# EAGLE library part MAX31855KASA+ (library HyTechDevices)
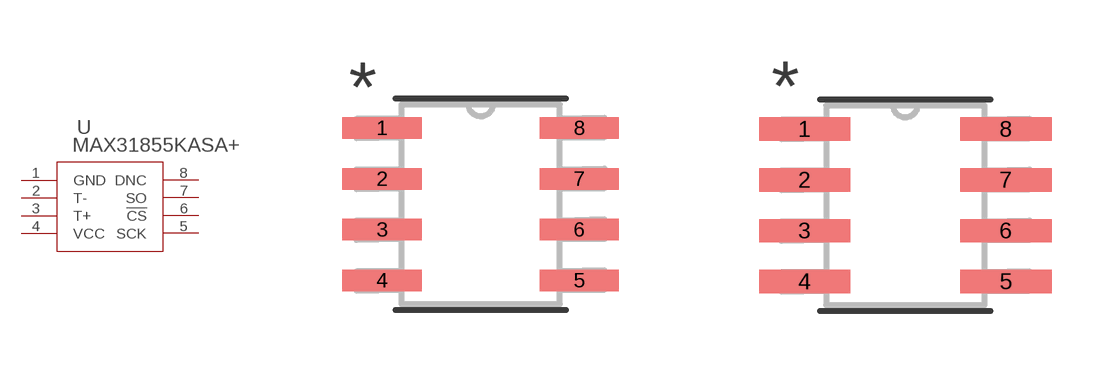
[diagram p111: symbol with the pads of 21-0041B_8; footprints 21-0041B_8, 21-0041B_8-M]

Designator prefix U

## MAX31855KASA+ (MANUFACTURER_PART_NUMBER: MAX31855KASA+; VENDOR: Maxim Integrated Products)  [21-0041B_8]
1  GND  pwr
2  T-  in
3  T+  in
4  VCC  pwr
5  SCK  in
6  !CS  pas
7  SO  out
8  DNC  nc

## MAX31855KASA+21-0041B_8-M (MANUFACTURER_PART_NUMBER: MAX31855KASA+; VENDOR: Maxim Integrated Products)  [21-0041B_8-M]
Pads as for 21-0041B_8

## MAX31855KASA+21-0041B_8-L (MANUFACTURER_PART_NUMBER: MAX31855KASA+; VENDOR: Maxim Integrated Products)  [21-0041B_8-L]
Pads as for 21-0041B_8

## Footprint 21-0041B_8 (pad centres in mm)
smd 1.981 x 0.533: 1 -2.464,1.905; 2 -2.464,0.635; 3 -2.464,-0.635; 4 -2.464,-1.905; 5 2.464,-1.905; 6 2.464,-0.635; 7 2.464,0.635; 8 2.464,1.905

## Footprint 21-0041B_8-M (pad centres in mm)
smd 2.286 x 0.584: 1 -2.515,1.905; 2 -2.515,0.635; 3 -2.515,-0.635; 4 -2.515,-1.905; 5 2.515,-1.905; 6 2.515,-0.635; 7 2.515,0.635; 8 2.515,1.905

## Footprint 21-0041B_8-L (pad centres in mm)
smd 1.676 x 0.483: 1 -2.413,1.905; 2 -2.413,0.635; 3 -2.413,-0.635; 4 -2.413,-1.905; 5 2.413,-1.905; 6 2.413,-0.635; 7 2.413,0.635; 8 2.413,1.905